# EAGLE library part LM339AN (library Fairchild_By_element14_Batch_1)
Comparator
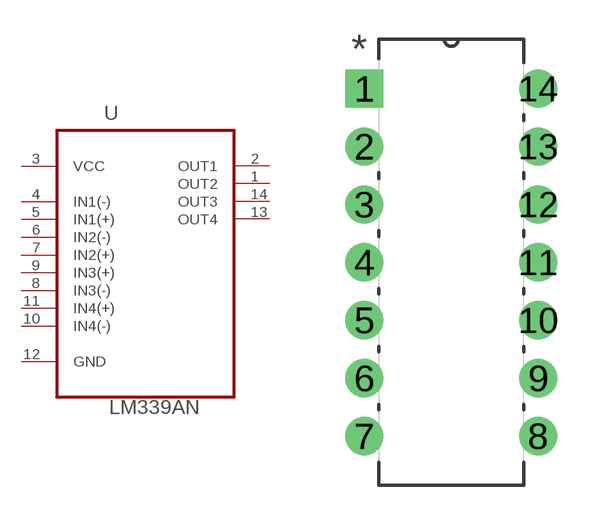
[diagram p210: symbol with the pads of DIP254P762X508-14; footprint DIP254P762X508-14]

Designator prefix U

## LM339AN (MPN: LM339AN; OC_FARNELL: 1564966; OC_NEWARK: 58K8938; PACKAGE: PDIP-14; SUPPLIER: Fairchild)  [DIP254P762X508-14]
1  OUT2  out
2  OUT1  out
3  VCC  pwr
4  IN1(-)  in
5  IN1(+)  in
6  IN2(-)  in
7  IN2(+)  in
8  IN3(-)  in
9  IN3(+)  in
10  IN4(-)  in
11  IN4(+)  in
12  GND  pas
13  OUT4  out
14  OUT3  out

## Footprint DIP254P762X508-14 (pad centres in mm)
drill 1.118 square: 1 -7.62,15.24
drill 1.118: 2 -7.62,12.7; 3 -7.62,10.16; 4 -7.62,7.62; 5 -7.62,5.08; 6 -7.62,2.54; 7 -7.62,0; 8 0,0; 9 0,2.54; 10 0,5.08; 11 0,7.62; 12 0,10.16; 13 0,12.7; 14 0,15.24